# EAGLE library part TXS0104E (library MyLibrary)
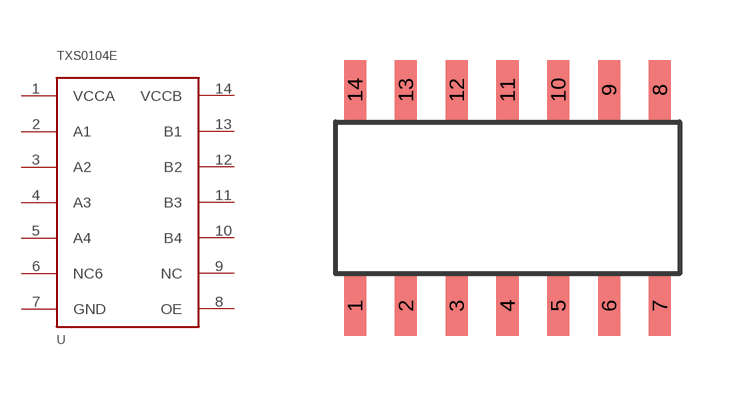
[diagram p11: symbol with the pads of SOIC-14; footprint SOIC-14]

Designator prefix -

## TXS0104E  [SOIC-14]
1  VCCA
2  A1
3  A2
4  A3
5  A4
6  NC6
7  GND
8  OE
9  NC
10  B4
11  B3
12  B2
13  B1
14  VCCB

## Footprint SOIC-14 (pad centres in mm)
smd 0.55 x 1.5: 1 -3.81,-2.7; 2 -2.54,-2.7; 3 -1.27,-2.7; 4 0,-2.7; 5 1.27,-2.7; 6 2.54,-2.7; 7 3.81,-2.7; 8 3.81,2.7; 9 2.54,2.7; 10 1.27,2.7; 11 0,2.7; 12 -1.27,2.7; 13 -2.54,2.7; 14 -3.81,2.7